# Altium schematic symbol library LabLib.SchLib: 212 symbols (part 2 of 2)
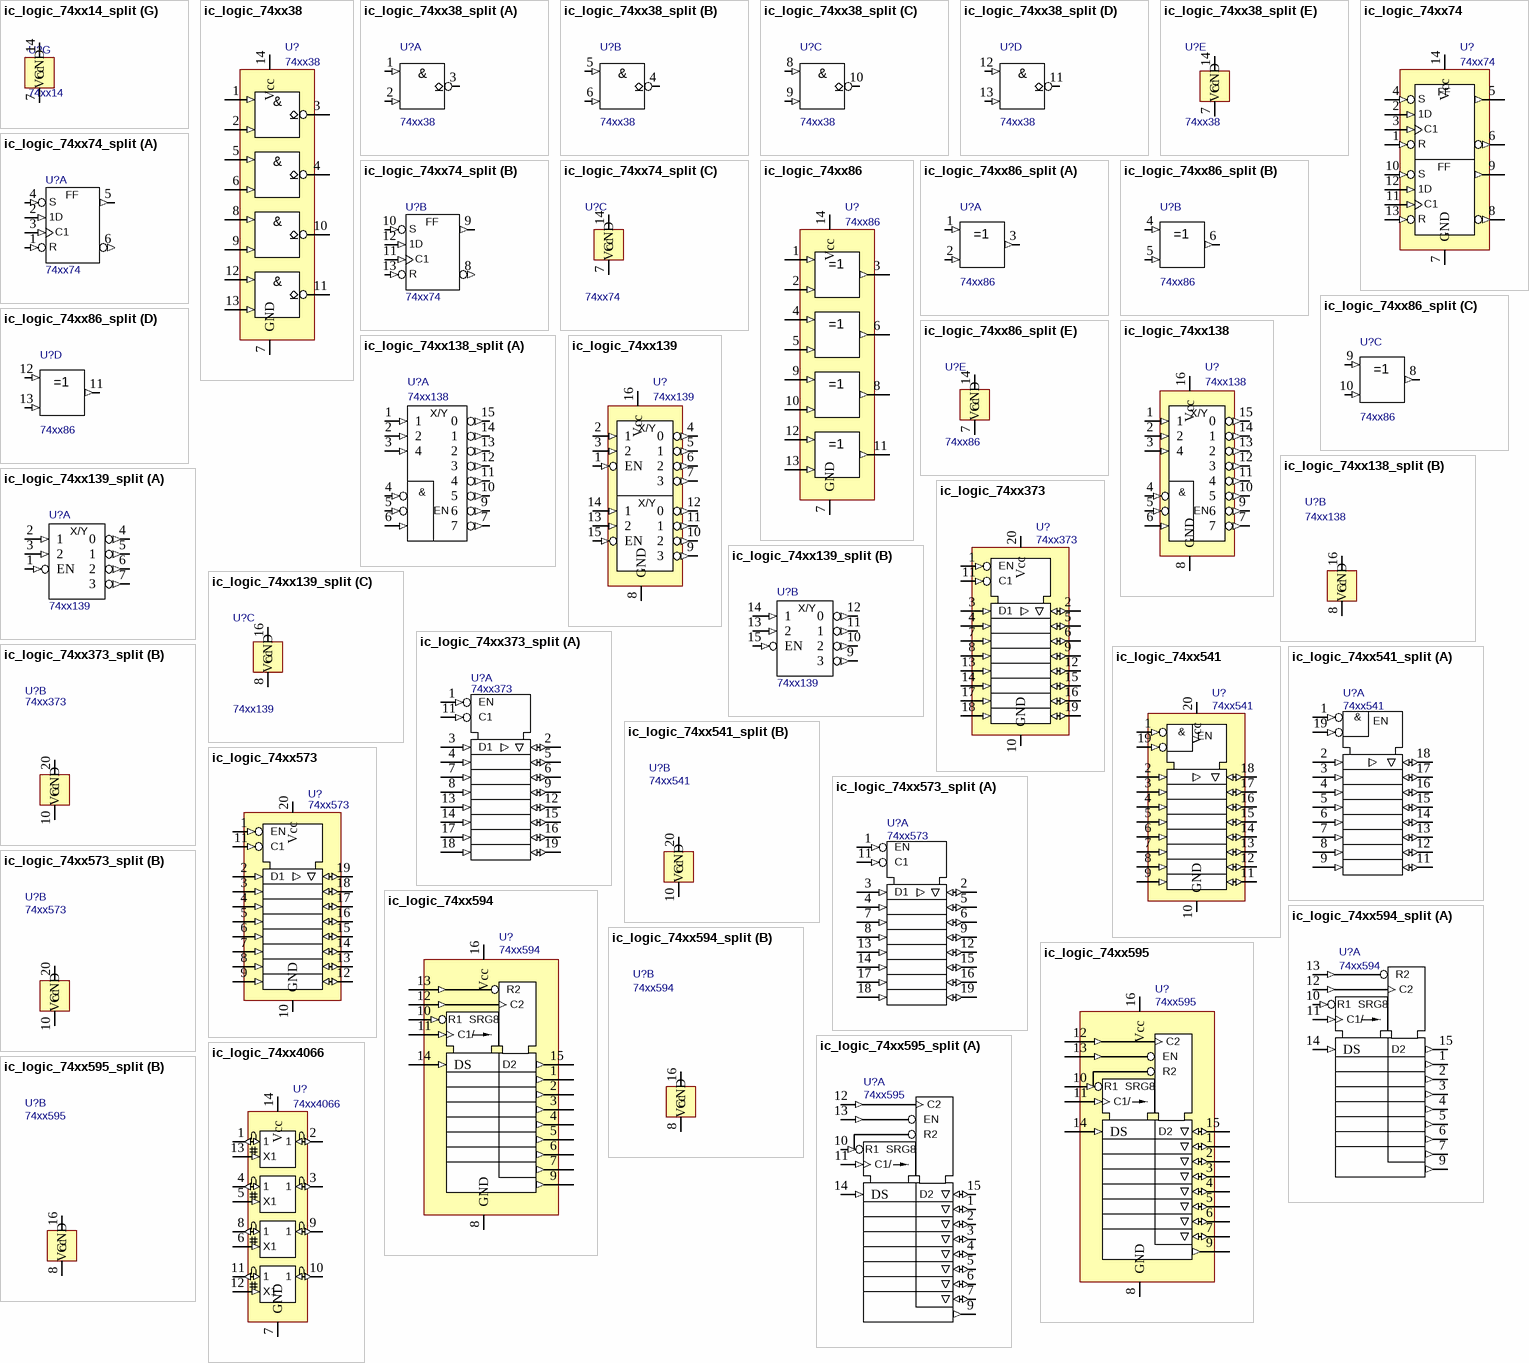
[diagram p10: symbols ic_logic_74xx14_split to ic_logic_74xx4066]

## ic_logic_74xx139
designator U?, comment 74xx139
Dual 2-to-4 line decoder/demultiplexer inverting output
pins: 1 EN (in), 2 1 (in), 3 2 (in), 4 0 (out), 5 1 (out), 6 2 (out), 7 3 (out), 8 GND (power), 9 3 (out), 10 2 (out), 11 1 (out), 12 0 (out), 13 2 (in), 14 1 (in), 15 EN (in), 16 Vcc (power)
text: X/Y

## ic_logic_74xx139_split
designator U?, comment 74xx139
Dual 2-to-4 line decoder/demultiplexer inverting output- Split schematic symbol
part A pins: 1 EN (in), 2 1 (in), 3 2 (in), 4 0 (out), 5 1 (out), 6 2 (out), 7 3 (out)
part B pins: 9 3 (out), 10 2 (out), 11 1 (out), 12 0 (out), 13 2 (in), 14 1 (in), 15 EN (in)
part C pins: 8 GND (power), 16 Vcc (power)
part A text: X/Y
part B text: X/Y

## ic_logic_74xx373
designator U?, comment 74xx373
Octal D-type transparent latch with 3-state
pins: 1 ~{OE} (in), 2 Q0 (io), 3 D0 (in), 4 D1 (in), 5 Q1 (io), 6 Q2 (io), 7 D2 (in), 8 D3 (in), 9 Q3 (io), 10 GND (power), 11 LE (in), 12 Q4 (io), 13 D4 (in), 14 D5 (in), 15 Q5 (io), 16 Q6 (io), 17 D6 (in), 18 D7 (in), 19 Q7 (io), 20 Vcc (power)
text: EN; C1

## ic_logic_74xx373_split
designator U?, comment 74xx373
Octal D-type transparent latch with 3-state - Split schematic symbol
part A pins: 1 ~{OE} (in), 2 Q0 (io), 3 D0 (in), 4 D1 (in), 5 Q1 (io), 6 Q2 (io), 7 D2 (in), 8 D3 (in), 9 Q3 (io), 11 LE (in), 12 Q4 (io), 13 D4 (in), 14 D5 (in), 15 Q5 (io), 16 Q6 (io), 17 D6 (in), 18 D7 (in), 19 Q7 (io)
part B pins: 10 GND (power), 20 Vcc (power)
part A text: EN; C1

## ic_logic_74xx541
designator U?, comment 74xx541
Octal buffer/line driver  3-state
pins: 1 ~{OE1} (in), 2 A0 (in), 3 A1 (in), 4 A2 (in), 5 A3 (in), 6 A4 (in), 7 A5 (in), 8 A6 (in), 9 A7 (in), 10 GND (power), 11 Y7 (io), 12 Y6 (io), 13 Y5 (io), 14 Y4 (io), 15 Y3 (io), 16 Y2 (io), 17 Y1 (io), 18 Y0 (io), 19 ~{OE2} (in), 20 Vcc (power)
text: &; EN

## ic_logic_74xx541_split
designator U?, comment 74xx541
Octal buffer/line driver  3-state - Split schematic symbol
part A pins: 1 ~{OE1} (in), 2 A0 (in), 3 A1 (in), 4 A2 (in), 5 A3 (in), 6 A4 (in), 7 A5 (in), 8 A6 (in), 9 A7 (in), 11 Y7 (io), 12 Y6 (io), 13 Y5 (io), 14 Y4 (io), 15 Y3 (io), 16 Y2 (io), 17 Y1 (io), 18 Y0 (io), 19 ~{OE2} (in)
part B pins: 10 GND (power), 20 Vcc (power)
part A text: &; EN

## ic_logic_74xx573
designator U?, comment 74xx573
Octal D-type transparent latch with 3-state
pins: 1 ~{OE} (in), 2 D0 (in), 3 D1 (in), 4 D2 (in), 5 D3 (in), 6 D4 (in), 7 D5 (in), 8 D6 (in), 9 D7 (in), 10 GND (power), 11 LE (in), 12 Q7 (io), 13 Q6 (io), 14 Q5 (io), 15 Q4 (io), 16 Q3 (io), 17 Q2 (io), 18 Q1 (io), 19 Q0 (io), 20 Vcc (power)
text: EN; C1

## ic_logic_74xx573_split
designator U?, comment 74xx573
Octal D-type transparent latch with 3-state - Split schematic symbol
part A pins: 1 ~{OE} (in), 2 Q0 (io), 3 D0 (in), 4 D1 (in), 5 Q1 (io), 6 Q2 (io), 7 D2 (in), 8 D3 (in), 9 Q3 (io), 11 LE (in), 12 Q4 (io), 13 D4 (in), 14 D5 (in), 15 Q5 (io), 16 Q6 (io), 17 D6 (in), 18 D7 (in), 19 Q7 (io)
part B pins: 10 GND (power), 20 Vcc (power)
part A text: EN; C1

## ic_logic_74xx594
designator U?, comment 74xx594
8-bit shift register with output register
pins: 1 Q1 (out), 2 Q2 (out), 3 Q3 (out), 4 Q4 (out), 5 Q5 (out), 6 Q6 (out), 7 Q7 (out), 8 GND (power), 9 Q7S (out), 10 ~{SHR} (in), 11 SHCP (in), 12 STCP (in), 13 ~{STR} (in), 14 DS (in), 15 Q0 (out), 16 Vcc (power)
text: R2; C2; R1; SRG8; C1/; D2

## ic_logic_74xx594_split
designator U?, comment 74xx594
8-bit shift register with output register - Split schematic symbol
part A pins: 1 Q1 (out), 2 Q2 (out), 3 Q3 (out), 4 Q4 (out), 5 Q5 (out), 6 Q6 (out), 7 Q7 (out), 9 Q7S (out), 10 ~{SHR} (in), 11 SHCP (in), 12 STCP (in), 13 ~{STR} (in), 14 DS (in), 15 Q0 (out)
part B pins: 8 GND (power), 16 Vcc (power)
part A text: R2; C2; R1; SRG8; C1/; D2

## ic_logic_74xx595
designator U?, comment 74xx595
8-bit shift register with 3-state output register
pins: 1 Q1 (io), 2 Q2 (io), 3 Q3 (io), 4 Q4 (io), 5 Q5 (io), 6 Q6 (io), 7 Q7 (io), 8 GND (power), 9 Q7S (out), 10 ~{SHR} (in), 11 SHCP (in), 12 STCP (in), 13 ~{STR} (in), 14 DS (in), 15 Q0 (io), 16 Vcc (power)
text: C2; EN; R2; R1; SRG8; C1/; D2

## ic_logic_74xx595_split
designator U?, comment 74xx595
8-bit shift register with 3-state output register- Split schematic symbol
part A pins: 1 Q1 (io), 2 Q2 (io), 3 Q3 (io), 4 Q4 (io), 5 Q5 (io), 6 Q6 (io), 7 Q7 (io), 9 Q7S (out), 10 ~{SHR} (in), 11 SHCP (in), 12 STCP (in), 13 ~{STR} (in), 14 DS (in), 15 Q0 (io)
part B pins: 8 GND (power), 16 Vcc (power)
part A text: C2; EN; R2; R1; SRG8; C1/; D2

## ic_logic_74xx4066
designator U?, comment 74xx4066
Quad bilateral switch
pins: 1 1Y (io), 2 1Z (io), 3 2Z (io), 4 2Y (io), 5 2E (in), 6 3E (in), 7 GND (power), 8 3Y (io), 9 3Z (io), 10 4Z (io), 11 4Y (io), 12 4E (in), 13 1E (in), 14 Vcc (power)
1 alternate drawing of the same symbol
text: X1

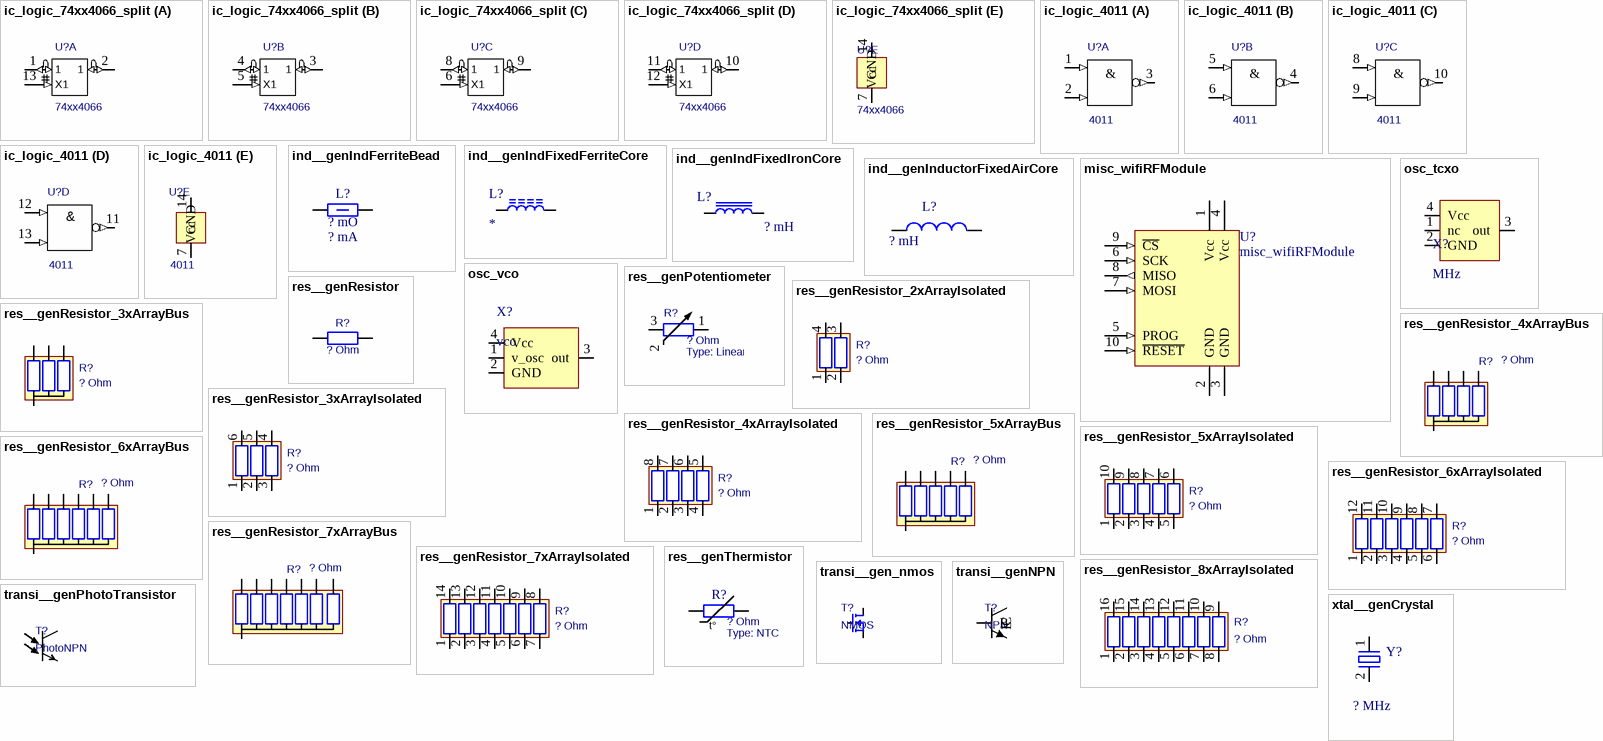
[diagram p9: symbols ic_logic_74xx4066_split to xtal__genCrystal]

## ic_logic_74xx4066_split
designator U?, comment 74xx4066
Quad bilateral switch - Split schematic symbol
part A pins: 1 1Y (io), 2 1Z (io), 13 1E (in)
part B pins: 3 2Z (io), 4 2Y (io), 5 2E (in)
part C pins: 6 3E (in), 8 3Y (io), 9 3Z (io)
part D pins: 10 4Z (io), 11 4Y (io), 12 4E (in)
part E pins: 7 GND (power), 14 Vcc (power)
1 alternate drawing of the same symbol
part A text: X1
part B text: X1
part C text: X1
part D text: X1

## ic_logic_4011
designator U?, comment 4011
Quad 2-input NAND gate - Standard 4000 Series
part A pins: 1 1A (in), 2 1B (in), 3 1X (out)
part B pins: 4 2X (out), 5 2A (in), 6 2B (in)
part C pins: 8 3A (in), 9 3B (in), 10 3X (out)
part D pins: 11 4X (out), 12 4A (in), 13 4B (in)
part E pins: 7 GND (power), 14 Vcc (power)
1 alternate drawing of the same symbol
part A text: &
part B text: &
part C text: &
part D text: &

## ind__genIndFerriteBead
designator L?, comment Current rating: ? mA  (hidden comment: ? mO)
Generic ferrite bead; Value: ? mO
pins: 1, 2

## ind__genIndFixedFerriteCore
designator L?
Generic fixed ferrite core inductor
pins: 1, 2

## ind__genIndFixedIronCore
designator L?, comment ? mH
Inductor with ferrite core; Value: ? mH
pins: 1, 2

## ind__genInductorFixedAirCore
designator L?, comment ? mH
Generic inductor with air gap; Value: ? mH
footprint ELLATV (Inductor10uH)
pins: 1, 2

## misc_wifiRFModule
designator U?
WiFi Radio Module; LatestRevisionDate: 17-Jul-2002; LatestRevisionNote: Re-released for DXP Platform.; Publisher: Altium Limited
signal-integrity model Connector
footprint RF-MODULE
footprint RF-MODULE
pins: 1 Vcc (power), 2 GND (power), 3 GND (power), 4 Vcc (power), 5 PROG (in), 6 SCK (in), 7 MOSI (in), 8 MISO (out), 9 ~{CS} (in), 10 ~{RESET} (in)

## osc_tcxo
designator X?, comment MHz
Temperature compensated crystal oscillator; Frequency: MHz; ModelType: *; PartNumber: *
pins: 1 nc, 2 GND, 3 out, 4 Vcc

## osc_vco
designator X?, comment vco
Voltage controlled oscillator
pins: 1 v_osc, 2 GND, 3 out, 4 Vcc

## res__genPotentiometer
designator R?, comment Type: Linear  (hidden comment: ? Ohm)
Generic Potentiometer; Watt rating: ? mW; Value: ? Ohm
pins: 1, 2, 3
1 alternate drawing of the same symbol

## res__genResistor
designator R?, comment ? Ohm
Generic resistor; Watt rating: ? mW; Value: ? Ohm
pins: 1, 2
1 alternate drawing of the same symbol

## res__genResistor_2xArrayIsolated
designator R?, comment ? Ohm
Generic 2x isolated resistor array; Watt rating: ? mW; Value: ? Ohm
pins: 1 1a, 2 2a, 3 2b, 4 1b
1 alternate drawing of the same symbol

## res__genResistor_3xArrayBus
designator R?, comment ? Ohm
Generic 3x bus resistor array; Watt rating: ? mW; Value: ? Ohm
pins: 1, 2, 3, C
1 alternate drawing of the same symbol

## res__genResistor_3xArrayIsolated
designator R?, comment ? Ohm
Generic 3x isolated resistor array; Watt rating: ? mW; Value: ? Ohm
pins: 1 1a, 2 2a, 3 3a, 4 3b, 5 2b, 6 1b
1 alternate drawing of the same symbol

## res__genResistor_4xArrayBus
designator R?, comment ? Ohm
Generic 4x bus resistor array; Watt rating: ? mW; Value: ? Ohm
pins: 1, 2, 3, 4, C
1 alternate drawing of the same symbol

## res__genResistor_4xArrayIsolated
designator R?, comment ? Ohm
Generic 4x isolated resistor array; Watt rating: ? mW; Value: ? Ohm
pins: 1 1a, 2 2a, 3 3a, 4 4a, 5 4b, 6 3b, 7 2b, 8 1b
1 alternate drawing of the same symbol

## res__genResistor_5xArrayBus
designator R?, comment ? Ohm
Generic 5x bus resistor array; Watt rating: ? mW; Value: ? Ohm
pins: 1, 2, 3, 4, 5, C
1 alternate drawing of the same symbol

## res__genResistor_5xArrayIsolated
designator R?, comment ? Ohm
Generic 5x isolated resistor array; Watt rating: ? mW; Value: ? Ohm
pins: 1 1a, 2 2a, 3 3a, 4 4a, 5 5a, 6 5b, 7 4b, 8 3b, 9 2b, 10 1b
1 alternate drawing of the same symbol

## res__genResistor_6xArrayBus
designator R?, comment ? Ohm
Generic 6x bus resistor array; Watt rating: ? mW; Value: ? Ohm
pins: 1, 2, 3, 4, 5, 6, C
1 alternate drawing of the same symbol

## res__genResistor_6xArrayIsolated
designator R?, comment ? Ohm
Generic 6x isolated resistor array; Watt rating: ? mW; Value: ? Ohm
pins: 1 1a, 2 2a, 3 3a, 4 4a, 5 5a, 6 6a, 7 6b, 8 5b, 9 4b, 10 3b, 11 2b, 12 1b
1 alternate drawing of the same symbol

## res__genResistor_7xArrayBus
designator R?, comment ? Ohm
Generic 7x bus resistor array; Watt rating: ? mW; Value: ? Ohm
pins: 1, 2, 3, 4, 5, 6, 7, C
1 alternate drawing of the same symbol

## res__genResistor_7xArrayIsolated
designator R?, comment ? Ohm
Generic 7x isolated resistor array; Watt rating: ? mW; Value: ? Ohm
pins: 1 1a, 2 2a, 3 3a, 4 4a, 5 5a, 6 6a, 7 7a, 8 7b, 9 6b, 10 5b, 11 4b, 12 3b, 13 2b, 14 1b
1 alternate drawing of the same symbol

## res__genResistor_8xArrayIsolated
designator R?, comment ? Ohm
Generic 8x isolated resistor array; Watt rating: ? mW; Value: ? Ohm
pins: 1 1a, 2 2a, 3 3a, 4 4a, 5 5a, 6 6a, 7 7a, 8 8a, 9 8b, 10 7b, 11 6b, 12 5b, 13 4b, 14 3b, 15 2b, 16 1b
1 alternate drawing of the same symbol

## res__genThermistor
designator R?, comment Type: NTC  (hidden comment: ? Ohm)
Generic Thermistor; Watt rating: ? mW; Value: ? Ohm
pins: 1, 2
1 alternate drawing of the same symbol
text: t°

## transi__gen_nmos
designator T?, comment NMOS
Generic N-channel Enhancement MOS Transistor; Technology: NMOS
pins: D "Drain", G "Gate", S "Source"

## transi__genNPN
designator T?, comment NPN
Generic NPN Transistor; Std: IEEE Std 315-1975
pins: B, C, E

## transi__genPhotoTransistor
designator T?, comment PhotoNPN
Generic Photo Transistor
pins: C, E

## xtal__genCrystal
designator Y?, comment ? MHz
Generic crystal; Value: ? MHz
footprint ABM8G-16; pin to pad 2>3 3>2
pins: 1, 2, 3 hidden to GND, 4 hidden to GND